# EAGLE library part 74*4066 (library 74xx-us-jlb)
Quad bilateral ANALOG SWITCH
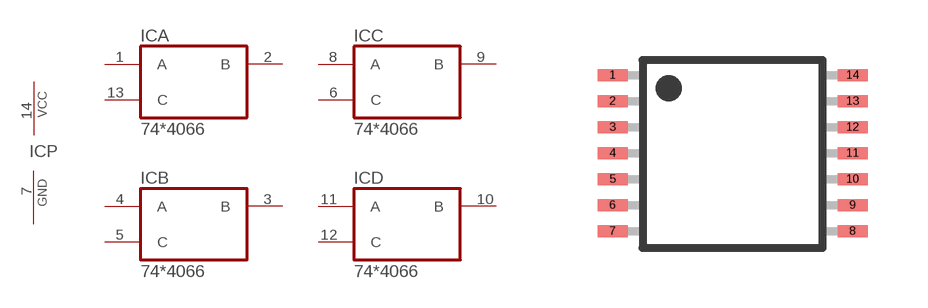
[diagram p329: symbol with the pads of TSSOP14; footprint TSSOP14]

Designator prefix IC; gates A=744066 B=744066 C=744066 D=744066 P=PWRN

## 744066, 74HCT4066, 74LS4066, 74LVC4066  [TSSOP14]
1  A:A  hiz
2  A:B  hiz
3  B:B  hiz
4  B:A  hiz
5  B:C  in
6  C:C  in
7  P:GND  pwr
8  C:A  hiz
9  C:B  hiz
10  D:B  hiz
11  D:A  hiz
12  D:C  in
13  A:C  in
14  P:VCC  pwr

## Footprint TSSOP14 (pad centres in mm)
smd 0.75 x 0.3: 1 -3,1.972; 2 -3,1.323; 3 -3,0.672; 4 -3,0.022; 5 -3,-0.627; 6 -3,-1.278; 7 -3,-1.927; 8 3,-1.927; 9 3,-1.278; 10 3,-0.627; 11 3,0.022; 12 3,0.672; 13 3,1.323; 14 3,1.972